# EAGLE library part LT3688 (library LT3688)
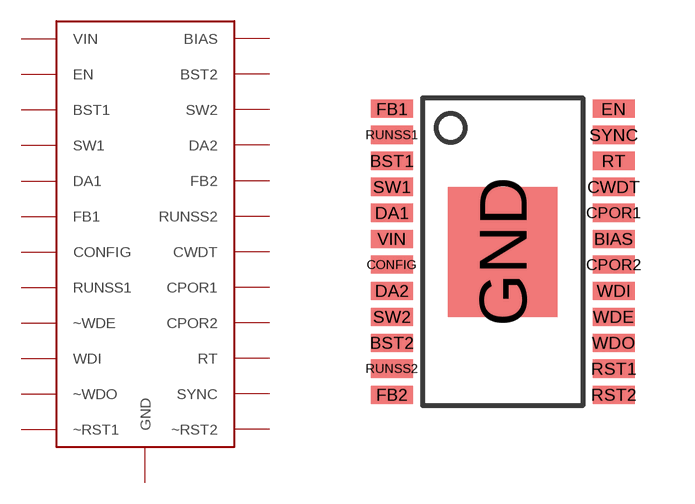
[diagram p0: symbol with the pads of LT3688TSSOP; footprint LT3688TSSOP]

Designator prefix -

## LT3688  [LT3688TSSOP]
BIAS  BIAS
BST1  BST1
BST2  BST2
CONFIG  CONFIG
CPOR1  CPOR1
CPOR2  CPOR2
CWDT  CWDT
DA1  DA1
DA2  DA2
EN  EN
FB1  FB1
FB2  FB2
GND  GND
RST1  ~RST1
RST2  ~RST2
RT  RT
RUNSS1  RUNSS1
RUNSS2  RUNSS2
SW1  SW1
SW2  SW2
SYNC  SYNC
VIN  VIN
WDE  ~WDE
WDI  WDI
WDO  ~WDO

## Footprint LT3688TSSOP (pad centres in mm)
smd 1.05 x 0.45: BIAS 2.775,0.325; BST1 -2.775,2.275; BST2 -2.775,-2.275; CONFIG -2.775,-0.325; CPOR1 2.775,0.975; CPOR2 2.775,-0.325; CWDT 2.775,1.625; DA1 -2.775,0.975; DA2 -2.775,-0.975; EN 2.775,3.575; FB1 -2.775,3.575; FB2 -2.775,-3.575; RST1 2.775,-2.925; RST2 2.775,-3.575; RT 2.775,2.275; RUNSS1 -2.775,2.925; RUNSS2 -2.775,-2.925; SW1 -2.775,1.625; SW2 -2.775,-1.625; SYNC 2.775,2.925; VIN -2.775,0.325; WDE 2.775,-1.625; WDI 2.775,-0.975; WDO 2.775,-2.275
smd 2.74 x 3.25: GND 0,0